# EAGLE library part 3361BS (library 3361BS)
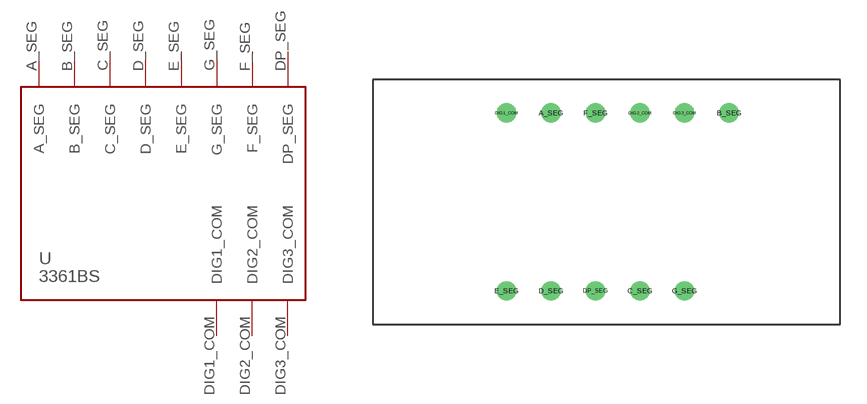
[diagram p0: symbol with the pads of 3361BS; footprint 3361BS]

Designator prefix -

## 3361BS  [3361BS]
A_SEG  A_SEG
B_SEG  B_SEG
C_SEG  C_SEG
D_SEG  D_SEG
DIG1_COM  DIG1_COM
DIG2_COM  DIG2_COM
DIG3_COM  DIG3_COM
DP_SEG  DP_SEG
E_SEG  E_SEG
F_SEG  F_SEG
G_SEG  G_SEG

## Footprint 3361BS (pad centres in mm)
drill 0.6: A_SEG -3.81,5.08; B_SEG 6.35,5.08; C_SEG 1.27,-5.08; D_SEG -3.81,-5.08; DIG1_COM -6.35,5.08; DIG2_COM 1.27,5.08; DIG3_COM 3.81,5.08; DP_SEG -1.27,-5.08; E_SEG -6.35,-5.08; F_SEG -1.27,5.08; G_SEG 3.81,-5.08